# Altium integrated library Linear Technology Power Management PMIC Multifunction.IntLib: 360 symbols (part 20 of 42)
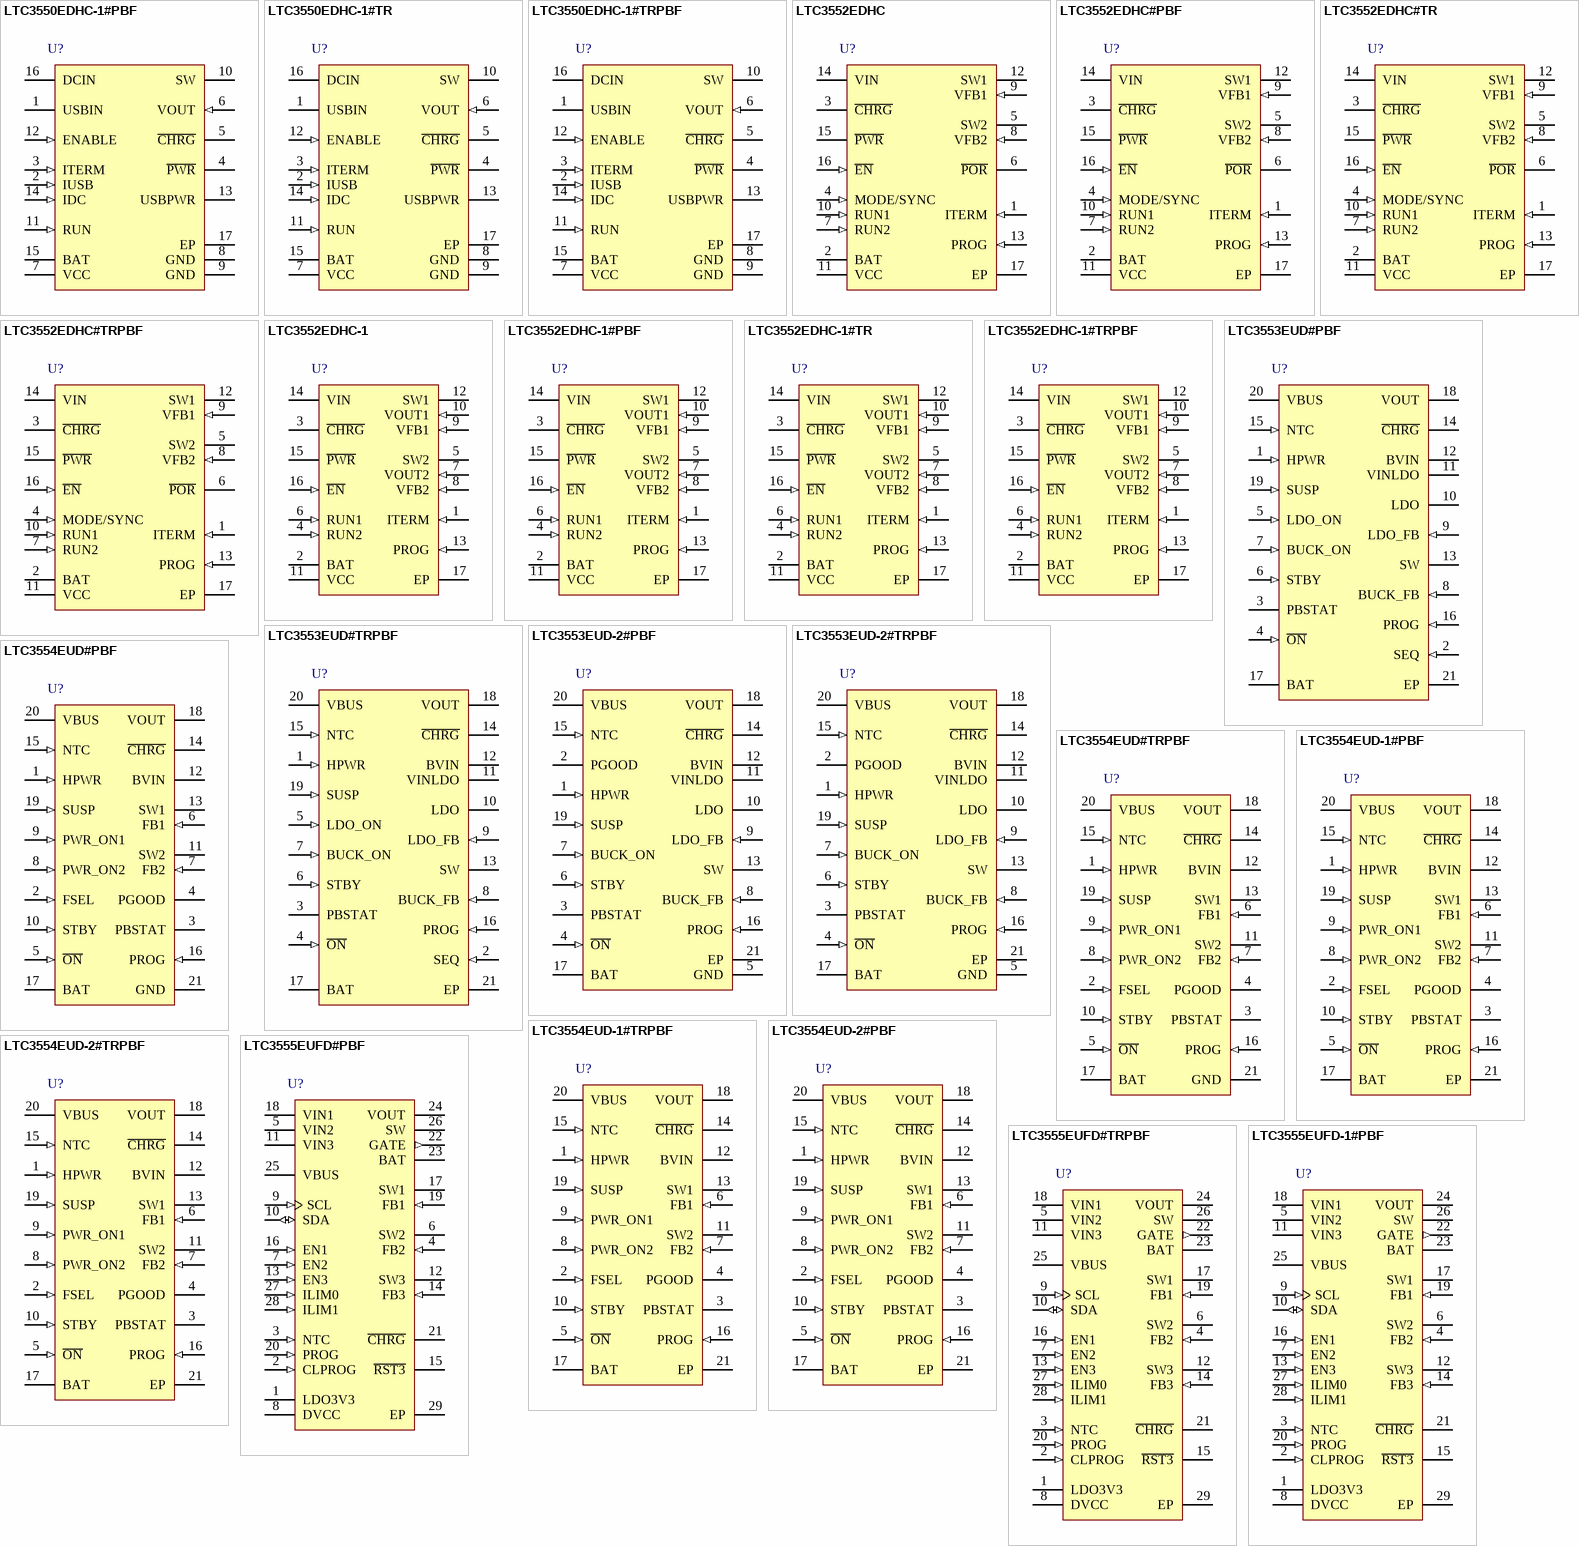
[diagram p37: symbols LTC3550EDHC-1#PBF to LTC3555EUFD-1#PBF]

## LTC3553EUD-2#PBF
designator U?
Micropower USB Power Manager with Li-Ion Charger, Always-On LDO and Buck Regulator with Power Good, 4.35 to 5.5 V Vin, 20-pin QFN (UD-20), -40 to 85 degC, Pb-Free; Manufacturer: Linear Technology; PartNumber: LTC3553EUD-2#PBF; Number of Cells: 1; Number of Outputs: 2; Vin Max(V): 5.5; Vin Min(V): 4.35; PackageVersion: Rev. A, 06/2010; PackageReference: UD-20; PackageDescription: 20-Pin Plastic QFN, Body 3 x 3 mm, Pitch 0.4 mm; Supplier 1: Digi-Key; Supplier Part Number 1: LTC3553EUD-2#PBF-ND; RoHS: TRUE; Mounting Technology: Surface Mount; ComponentLink1Description: Manufacturer URL; ComponentLink1URL: http://www.linear.com/; ComponentLink2Description: Datasheet; ComponentLink2URL: http://cds.linear.com/docs/en/datasheet/35532f.pdf; ComponentLink3Description: Package Specification; ComponentLink3URL: http://cds.linear.com/docs/en/packaging/QFN_20_05-08-1720.pdf
footprint LT-UD-20_N (QFN, 20-Leads, Body 3.1x3.1mm, Pitch 0.4mm, Thermal Pad 1.65x1.65mm, IPC Medium Density)
footprint LT-UD-20_L (QFN, 20-Leads, Body 3.1x3.1mm, Pitch 0.4mm, Thermal Pad 1.65x1.65mm, IPC High Density)
footprint LT-UD-20_M (QFN, 20-Leads, Body 3.1x3.1mm, Pitch 0.4mm, Thermal Pad 1.65x1.65mm, IPC Low Density)
pins: 1 HPWR (in) "High Power Logic Input. When this pin is low the input current limit is set to 100mA and when this pin is driven high it is set to 500mA. The SUSP pin needs to be low for the input current limit circuit to be enabled. This (See Datasheet)", 2 PGOOD (hiz) "Power Good. This open-drain output indicates that all enabled regulators have been in regulation for at least 1.8ms.", 3 PBSTAT (hiz) "Pushbutton Status. This open-drain output is a debounced and buffered version of the O\N\ pushbutton input. It may be used to interrupt a microprocessor.", 4 ~{ON} (in) "Pushbutton Input. Weak internal pull-up forces a high state if O\N\ is left floating. A normally open pushbutton is connected from O\N\ to ground to force a low state on this pin.", 5 GND (power) "Ground. The exposed package pad is ground and must be soldered to the PC board for proper functionality and for maximum heat transfer.", 6 STBY (in) "Standby Mode. When this pin is driven high, the buck and LDO regulator quiescent current is reduced to very low levels, while still maintaining output voltage regulation. In this mode, the buck regulator is limited to 10mA (See Datasheet)", 7 BUCK_ON (in) "Logic Input Enables the Buck Regulator. This pin must be driven to a valid logic level. Do not float this pin.", 8 BUCK_FB (in) "Feedback Input for the Buck Regulator. This pin servos to a fixed voltage of 0.8V when the control loop is complete.", 9 LDO_FB (in) "Feedback Input for the Low Dropout Regulator. This pin servos to a fixed voltage of 0.8V when the control loop is complete.", 10 LDO (power) "Low Dropout (LDO) Linear Regulator Output. This pin should be bypassed with a low impedance multilayer ceramic capacitor.", 11 VINLDO (power) "Power Input Pin for the LDO Regulator. This pin is to be connected to VOUT or any supply voltage below VOUT, such as the buck regulator output. This pin should be bypassed with a low impedance multilayer ceramic capacitor.", 12 BVIN (power) "Power Input for the Buck Regulator. It is recommended that this pin be connected to the VOUT pin. It should be bypassed with a low impedance multilayer ceramic capacitor.", 13 SW (power) "Power Transmission (Switch) Pin for the Buck Regulator.", 14 ~{CHRG} (hiz) "Open-Drain Charge Status Output. This pin indicates the status of the battery charger. It is internally pulled low while charging. Once the battery charge current reduces to less than one-tenth of the programmed charge (See Datasheet)", 15 NTC (in) "The NTC pin connects to a battery’s thermistor to determine if the battery is too hot or too cold to charge. If the battery’s temperature is out of range, charging is paused until it drops back into range. A low dr(See Datasheet)", 16 PROG (in) "Charge Current Program and Charge Current Monitor Pin. Connecting a resistor from PROG to ground programs the charge current as given by: ICHG (A)= 750V /RPROG If sufficient input power is available in constant-current mode, (See Datasheet)", 17 BAT (power) "Single-Cell Li-Ion Battery Pin. Depending on available power and load, a Li-Ion battery on BAT will either deliver system power to VOUT through the ideal diode or be charged from the battery charger.", 18 VOUT (power) "Output Voltage of the PowerPath Controller and Input Voltage of the Battery Charger. The majority of the portable products should be powered from VOUT. The LTC3553 will partition the available power between the external load (See Datasheet)", 19 SUSP (in) "Suspend Mode Logic Input. If this pin is driven high the input current limit path is disabled. In this state the circuit draws negligible power from the VBUS pin. Any load at the VOUT pin is provided by the battery through (See Datasheet)", 20 VBUS (power) "USB Input Voltage. VBUS will usually be connected to the USB port of a computer or a DC output wall adapter. VBUS should be bypassed with a low impedance multilayer ceramic capacitor.", 21 EP (power) "Ground. The exposed package pad is ground and must be soldered to the PC board for proper functionality and for maximum heat transfer."

## LTC3553EUD-2#TRPBF
designator U?
Micropower USB Power Manager with Li-Ion Charger, Always-On LDO and Buck Regulator with Power Good, 4.35 to 5.5 V Vin, 20-pin QFN (UD-20), -40 to 85 degC, Pb-Free, Tape and Reel; Manufacturer: Linear Technology; PartNumber: LTC3553EUD-2#TRPBF; Number of Cells: 1; Number of Outputs: 2; Vin Max(V): 5.5; Vin Min(V): 4.35; PackageVersion: Rev. A, 06/2010; PackageReference: UD-20; PackageDescription: 20-Pin Plastic QFN, Body 3 x 3 mm, Pitch 0.4 mm; Supplier 1: Digi-Key; Supplier Part Number 1: LTC3553EUD-2#TRPBF-ND; Packing: Tape and Reel; RoHS: TRUE; Mounting Technology: Surface Mount; ComponentLink1Description: Manufacturer URL; ComponentLink1URL: http://www.linear.com/; ComponentLink2Description: Datasheet; ComponentLink2URL: http://cds.linear.com/docs/en/datasheet/35532f.pdf; ComponentLink3Description: Package Specification; ComponentLink3URL: http://cds.linear.com/docs/en/packaging/QFN_20_05-08-1720.pdf
footprint LT-UD-20_N (QFN, 20-Leads, Body 3.1x3.1mm, Pitch 0.4mm, Thermal Pad 1.65x1.65mm, IPC Medium Density)
footprint LT-UD-20_L (QFN, 20-Leads, Body 3.1x3.1mm, Pitch 0.4mm, Thermal Pad 1.65x1.65mm, IPC High Density)
footprint LT-UD-20_M (QFN, 20-Leads, Body 3.1x3.1mm, Pitch 0.4mm, Thermal Pad 1.65x1.65mm, IPC Low Density)
pins: 1 HPWR (in) "High Power Logic Input. When this pin is low the input current limit is set to 100mA and when this pin is driven high it is set to 500mA. The SUSP pin needs to be low for the input current limit circuit to be enabled. This (See Datasheet)", 2 PGOOD (hiz) "Power Good. This open-drain output indicates that all enabled regulators have been in regulation for at least 1.8ms.", 3 PBSTAT (hiz) "Pushbutton Status. This open-drain output is a debounced and buffered version of the O\N\ pushbutton input. It may be used to interrupt a microprocessor.", 4 ~{ON} (in) "Pushbutton Input. Weak internal pull-up forces a high state if O\N\ is left floating. A normally open pushbutton is connected from O\N\ to ground to force a low state on this pin.", 5 GND (power) "Ground. The exposed package pad is ground and must be soldered to the PC board for proper functionality and for maximum heat transfer.", 6 STBY (in) "Standby Mode. When this pin is driven high, the buck and LDO regulator quiescent current is reduced to very low levels, while still maintaining output voltage regulation. In this mode, the buck regulator is limited to 10mA (See Datasheet)", 7 BUCK_ON (in) "Logic Input Enables the Buck Regulator. This pin must be driven to a valid logic level. Do not float this pin.", 8 BUCK_FB (in) "Feedback Input for the Buck Regulator. This pin servos to a fixed voltage of 0.8V when the control loop is complete.", 9 LDO_FB (in) "Feedback Input for the Low Dropout Regulator. This pin servos to a fixed voltage of 0.8V when the control loop is complete.", 10 LDO (power) "Low Dropout (LDO) Linear Regulator Output. This pin should be bypassed with a low impedance multilayer ceramic capacitor.", 11 VINLDO (power) "Power Input Pin for the LDO Regulator. This pin is to be connected to VOUT or any supply voltage below VOUT, such as the buck regulator output. This pin should be bypassed with a low impedance multilayer ceramic capacitor.", 12 BVIN (power) "Power Input for the Buck Regulator. It is recommended that this pin be connected to the VOUT pin. It should be bypassed with a low impedance multilayer ceramic capacitor.", 13 SW (power) "Power Transmission (Switch) Pin for the Buck Regulator.", 14 ~{CHRG} (hiz) "Open-Drain Charge Status Output. This pin indicates the status of the battery charger. It is internally pulled low while charging. Once the battery charge current reduces to less than one-tenth of the programmed charge (See Datasheet)", 15 NTC (in) "The NTC pin connects to a battery’s thermistor to determine if the battery is too hot or too cold to charge. If the battery’s temperature is out of range, charging is paused until it drops back into range. A low dr(See Datasheet)", 16 PROG (in) "Charge Current Program and Charge Current Monitor Pin. Connecting a resistor from PROG to ground programs the charge current as given by: ICHG (A)= 750V /RPROG If sufficient input power is available in constant-current mode, (See Datasheet)", 17 BAT (power) "Single-Cell Li-Ion Battery Pin. Depending on available power and load, a Li-Ion battery on BAT will either deliver system power to VOUT through the ideal diode or be charged from the battery charger.", 18 VOUT (power) "Output Voltage of the PowerPath Controller and Input Voltage of the Battery Charger. The majority of the portable products should be powered from VOUT. The LTC3553 will partition the available power between the external load (See Datasheet)", 19 SUSP (in) "Suspend Mode Logic Input. If this pin is driven high the input current limit path is disabled. In this state the circuit draws negligible power from the VBUS pin. Any load at the VOUT pin is provided by the battery through (See Datasheet)", 20 VBUS (power) "USB Input Voltage. VBUS will usually be connected to the USB port of a computer or a DC output wall adapter. VBUS should be bypassed with a low impedance multilayer ceramic capacitor.", 21 EP (power) "Ground. The exposed package pad is ground and must be soldered to the PC board for proper functionality and for maximum heat transfer."

## LTC3554EUD#PBF
designator U?
Micropower USB Power Manager with Li-Ion Charger and Two Step-Down Regulator, 4.35 to 5.5 V Vin, 20-pin QFN (UD-20), -40 to 85 degC, Pb-Free; Manufacturer: Linear Technology; PartNumber: LTC3554EUD#PBF; Number of Cells: 1; Number of Outputs: 2; Vin Max(V): 5.5; Vin Min(V): 4.35; DatasheetVersion: Rev. E; PackageVersion: Rev. A, 06/2010; PackageReference: UD-20; PackageDescription: 20-Pin Plastic QFN, Body 3 x 3 mm, Pitch 0.4 mm; Supplier 1: Digi-Key; Supplier Part Number 1: LTC3554EUD#PBF-ND; Supplier 2: Farnell; Supplier Part Number 2: 1847617; Supplier 3: Newark; Supplier Part Number 3: 84R4960; RoHS: TRUE; Mounting Technology: Surface Mount; ComponentLink1Description: Manufacturer URL; ComponentLink1URL: http://www.linear.com/; ComponentLink2Description: Datasheet; ComponentLink2URL: http://cds.linear.com/docs/en/datasheet/355412fe.pdf; ComponentLink3Description: Package Specification; ComponentLink3URL: http://cds.linear.com/docs/en/packaging/QFN_20_05-08-1720.pdf
footprint LT-UD-20_N (QFN, 20-Leads, Body 3.1x3.1mm, Pitch 0.4mm, Thermal Pad 1.65x1.65mm, IPC Medium Density)
footprint LT-UD-20_L (QFN, 20-Leads, Body 3.1x3.1mm, Pitch 0.4mm, Thermal Pad 1.65x1.65mm, IPC High Density)
footprint LT-UD-20_M (QFN, 20-Leads, Body 3.1x3.1mm, Pitch 0.4mm, Thermal Pad 1.65x1.65mm, IPC Low Density)
pins: 1 HPWR (in) "High Power Logic Input. When this pin is low the input current limit is set to 100mA and when this pin is driven high it is set to 500mA. The SUSP pin needs to be low for the input current limit circuit to be enabled. This (See Datasheet)", 2 FSEL (in) "Buck Frequency Select. When this pin is low the buck switching frequency is set to 1.125MHz and when this pin is driven high it is set to 2.25MHz.", 3 PBSTAT (hiz) "Pushbutton Status. This open-drain output is a debounced and buffered version of the O\N\ pushbutton input. It may be used to interrupt a microprocessor.", 4 PGOOD (hiz) "Power Good. This open-drain output indicates that all enabled buck regulators have been in regulation for at least 230ms.", 5 ~{ON} (in) "Pushbutton Input. Weak internal pull-up forces a high state if O\N\ is left floating. A normally open pushbutton is connected from O\N\ to ground to force a low state on this pin.", 6 FB1 (in) "Feedback Input for Step-Down Switching Regulator 1. This pin servos to a fixed voltage of 0.8V when the control loop is complete.", 7 FB2 (in) "Feedback Input for Step-Down Switching Regulator 2. This pin servos to a fixed voltage of 0.8V when the control loop is complete.", 8 PWR_ON2 (in) "Logic Input Enables Step-Down Switching Regulator 2.", 9 PWR_ON1 (in) "Logic Input Enables Step-Down Switching Regulator 1.", 10 STBY (in) "Standby Mode. When this pin is driven high the part enters a very low quiescent current mode. The buck regulators are each limited to 5mA maximum load current in this mode.", 11 SW2 (power) "Power Transmission (Switch) Pin for Step-Down Switching Regulator 2.", 12 BVIN (power) "Power Input for Step-Down Switching Regulators 1 and 2. It is recommended that this pin be connected to the VOUT pin. It should be bypassed with a low impedance multilayer ceramic capacitor.", 13 SW1 (power) "Power Transmission (Switch) Pin for Step-Down Switching Regulator 1.", 14 ~{CHRG} (hiz) "Open-Drain Charge Status Output. This pin indicates the status of the battery charger. It is internally pulled low while charging. Once the battery charge current reduces to less than one-tenth of the programmed charge (See Datasheet)", 15 NTC (in) "The NTC pin connects to a battery’s thermistor to determine if the battery is too hot or too cold to charge. If the battery’s temperature is out of range, charging is paused until it drops back into range. A low dr(See Datasheet)", 16 PROG (in) "Charge Current Program and Charge Current Monitor Pin. Connecting a resistor from PROG to ground programs the charge current as given by:ICHG (A)=750V/RPROG.If sufficient input power is available in constant-current mode, (See Datasheet)", 17 BAT (power) "Single-Cell Li-Ion Battery Pin. Depending on available power and load, a Li-Ion battery on BAT will either deliver system power to VOUT through the ideal diode or be charged from the battery charger.", 18 VOUT (power) "Output Voltage of the PowerPath Controller and Input Voltage of the Battery Charger. The majority of the portable products should be powered from VOUT.", 19 SUSP (in) "Suspend Mode Logic Input. If this pin is driven high the input current limit path is disabled. In this state the circuit draws negligible power from the VBUS pin. Any load at the VOUT pin is provided by the battery through (See Datasheet)", 20 VBUS (power) "USB Input Voltage. VBUS will usually be connected to the USB port of a computer or a DC output wall adapter. VBUS should be bypassed with a low impedance multilayer ceramic capacitor.", 21 GND (power) "Ground. The exposed package pad is ground and must be soldered to the PC board for proper functionality and for maximum heat transfer."

## LTC3554EUD#TRPBF
designator U?
Micropower USB Power Manager with Li-Ion Charger and Two Step-Down Regulator, 4.35 to 5.5 V Vin, 20-pin QFN (UD-20), -40 to 85 degC, Pb-Free, Tape and Reel; Manufacturer: Linear Technology; PartNumber: LTC3554EUD#TRPBF; Number of Cells: 1; Number of Outputs: 2; Vin Max(V): 5.5; Vin Min(V): 4.35; DatasheetVersion: Rev. E; PackageVersion: Rev. A, 06/2010; PackageReference: UD-20; PackageDescription: 20-Pin Plastic QFN, Body 3 x 3 mm, Pitch 0.4 mm; Supplier 1: Digi-Key; Supplier Part Number 1: LTC3554EUD#TRPBF-ND; Supplier 2: Newark; Supplier Part Number 2: 84R4961; Packing: Tape and Reel; RoHS: TRUE; Mounting Technology: Surface Mount; ComponentLink1Description: Manufacturer URL; ComponentLink1URL: http://www.linear.com/; ComponentLink2Description: Datasheet; ComponentLink2URL: http://cds.linear.com/docs/en/datasheet/355412fe.pdf; ComponentLink3Description: Package Specification; ComponentLink3URL: http://cds.linear.com/docs/en/packaging/QFN_20_05-08-1720.pdf
footprint LT-UD-20_N (QFN, 20-Leads, Body 3.1x3.1mm, Pitch 0.4mm, Thermal Pad 1.65x1.65mm, IPC Medium Density)
footprint LT-UD-20_L (QFN, 20-Leads, Body 3.1x3.1mm, Pitch 0.4mm, Thermal Pad 1.65x1.65mm, IPC High Density)
footprint LT-UD-20_M (QFN, 20-Leads, Body 3.1x3.1mm, Pitch 0.4mm, Thermal Pad 1.65x1.65mm, IPC Low Density)
pins: 1 HPWR (in) "High Power Logic Input. When this pin is low the input current limit is set to 100mA and when this pin is driven high it is set to 500mA. The SUSP pin needs to be low for the input current limit circuit to be enabled. This (See Datasheet)", 2 FSEL (in) "Buck Frequency Select. When this pin is low the buck switching frequency is set to 1.125MHz and when this pin is driven high it is set to 2.25MHz.", 3 PBSTAT (hiz) "Pushbutton Status. This open-drain output is a debounced and buffered version of the O\N\ pushbutton input. It may be used to interrupt a microprocessor.", 4 PGOOD (hiz) "Power Good. This open-drain output indicates that all enabled buck regulators have been in regulation for at least 230ms.", 5 ~{ON} (in) "Pushbutton Input. Weak internal pull-up forces a high state if O\N\ is left floating. A normally open pushbutton is connected from O\N\ to ground to force a low state on this pin.", 6 FB1 (in) "Feedback Input for Step-Down Switching Regulator 1. This pin servos to a fixed voltage of 0.8V when the control loop is complete.", 7 FB2 (in) "Feedback Input for Step-Down Switching Regulator 2. This pin servos to a fixed voltage of 0.8V when the control loop is complete.", 8 PWR_ON2 (in) "Logic Input Enables Step-Down Switching Regulator 2.", 9 PWR_ON1 (in) "Logic Input Enables Step-Down Switching Regulator 1.", 10 STBY (in) "Standby Mode. When this pin is driven high the part enters a very low quiescent current mode. The buck regulators are each limited to 5mA maximum load current in this mode.", 11 SW2 (power) "Power Transmission (Switch) Pin for Step-Down Switching Regulator 2.", 12 BVIN (power) "Power Input for Step-Down Switching Regulators 1 and 2. It is recommended that this pin be connected to the VOUT pin. It should be bypassed with a low impedance multilayer ceramic capacitor.", 13 SW1 (power) "Power Transmission (Switch) Pin for Step-Down Switching Regulator 1.", 14 ~{CHRG} (hiz) "Open-Drain Charge Status Output. This pin indicates the status of the battery charger. It is internally pulled low while charging. Once the battery charge current reduces to less than one-tenth of the programmed charge (See Datasheet)", 15 NTC (in) "The NTC pin connects to a battery’s thermistor to determine if the battery is too hot or too cold to charge. If the battery’s temperature is out of range, charging is paused until it drops back into range. A low dr(See Datasheet)", 16 PROG (in) "Charge Current Program and Charge Current Monitor Pin. Connecting a resistor from PROG to ground programs the charge current as given by:ICHG (A)=750V/RPROG.If sufficient input power is available in constant-current mode, (See Datasheet)", 17 BAT (power) "Single-Cell Li-Ion Battery Pin. Depending on available power and load, a Li-Ion battery on BAT will either deliver system power to VOUT through the ideal diode or be charged from the battery charger.", 18 VOUT (power) "Output Voltage of the PowerPath Controller and Input Voltage of the Battery Charger. The majority of the portable products should be powered from VOUT.", 19 SUSP (in) "Suspend Mode Logic Input. If this pin is driven high the input current limit path is disabled. In this state the circuit draws negligible power from the VBUS pin. Any load at the VOUT pin is provided by the battery through (See Datasheet)", 20 VBUS (power) "USB Input Voltage. VBUS will usually be connected to the USB port of a computer or a DC output wall adapter. VBUS should be bypassed with a low impedance multilayer ceramic capacitor.", 21 GND (power) "Ground. The exposed package pad is ground and must be soldered to the PC board for proper functionality and for maximum heat transfer."

## LTC3554EUD-1#PBF
designator U?
Micropower USB Power Manager with Li-Ion Charger and Two Step-Down Regulator, Extended Hard Reset Time, 4.35 to 5.5 V Vin, 20-pin QFN (UD-20), -40 to 85 degC, Pb-Free; Manufacturer: Linear Technology; PartNumber: LTC3554EUD-1#PBF; Number of Cells: 1; Number of Outputs: 2; Vin Max(V): 5.5; Vin Min(V): 4.35; DatasheetVersion: Rev. E; PackageVersion: Rev. A, 06/2010; PackageReference: UD-20; PackageDescription: 20-Pin Plastic QFN, Body 3 x 3 mm, Pitch 0.4 mm; Supplier 1: Digi-Key; Supplier Part Number 1: LTC3554EUD-1#PBF-ND; RoHS: TRUE; Mounting Technology: Surface Mount; ComponentLink1Description: Manufacturer URL; ComponentLink1URL: http://www.linear.com/; ComponentLink2Description: Datasheet; ComponentLink2URL: http://cds.linear.com/docs/en/datasheet/355412fe.pdf; ComponentLink3Description: Package Specification; ComponentLink3URL: http://cds.linear.com/docs/en/packaging/QFN_20_05-08-1720.pdf
footprint LT-UD-20_N (QFN, 20-Leads, Body 3.1x3.1mm, Pitch 0.4mm, Thermal Pad 1.65x1.65mm, IPC Medium Density)
footprint LT-UD-20_L (QFN, 20-Leads, Body 3.1x3.1mm, Pitch 0.4mm, Thermal Pad 1.65x1.65mm, IPC High Density)
footprint LT-UD-20_M (QFN, 20-Leads, Body 3.1x3.1mm, Pitch 0.4mm, Thermal Pad 1.65x1.65mm, IPC Low Density)
pins: 1 HPWR (in) "High Power Logic Input. When this pin is low the input current limit is set to 100mA and when this pin is driven high it is set to 500mA. The SUSP pin needs to be low for the input current limit circuit to be enabled. This (See Datasheet)", 2 FSEL (in) "Buck Frequency Select. When this pin is low the buck switching frequency is set to 1.125MHz and when this pin is driven high it is set to 2.25MHz.", 3 PBSTAT (hiz) "Pushbutton Status. This open-drain output is a debounced and buffered version of the O\N\ pushbutton input. It may be used to interrupt a microprocessor.", 4 PGOOD (hiz) "Power Good. This open-drain output indicates that all enabled buck regulators have been in regulation for at least 230ms.", 5 ~{ON} (in) "Pushbutton Input. Weak internal pull-up forces a high state if O\N\ is left floating. A normally open pushbutton is connected from O\N\ to ground to force a low state on this pin.", 6 FB1 (in) "Feedback Input for Step-Down Switching Regulator 1. This pin servos to a fixed voltage of 0.8V when the control loop is complete.", 7 FB2 (in) "Feedback Input for Step-Down Switching Regulator 2. This pin servos to a fixed voltage of 0.8V when the control loop is complete.", 8 PWR_ON2 (in) "Logic Input Enables Step-Down Switching Regulator 2.", 9 PWR_ON1 (in) "Logic Input Enables Step-Down Switching Regulator 1.", 10 STBY (in) "Standby Mode. When this pin is driven high the part enters a very low quiescent current mode. The buck regulators are each limited to 5mA maximum load current in this mode.", 11 SW2 (power) "Power Transmission (Switch) Pin for Step-Down Switching Regulator 2.", 12 BVIN (power) "Power Input for Step-Down Switching Regulators 1 and 2. It is recommended that this pin be connected to the VOUT pin. It should be bypassed with a low impedance multilayer ceramic capacitor.", 13 SW1 (power) "Power Transmission (Switch) Pin for Step-Down Switching Regulator 1.", 14 ~{CHRG} (hiz) "Open-Drain Charge Status Output. This pin indicates the status of the battery charger. It is internally pulled low while charging. Once the battery charge current reduces to less than one-tenth of the programmed charge (See Datasheet)", 15 NTC (in) "The NTC pin connects to a battery’s thermistor to determine if the battery is too hot or too cold to charge. If the battery’s temperature is out of range, charging is paused until it drops back into range. A low dr(See Datasheet)", 16 PROG (in) "Charge Current Program and Charge Current Monitor Pin. Connecting a resistor from PROG to ground programs the charge current as given by:ICHG (A)=750V/RPROG.If sufficient input power is available in constant-current mode, (See Datasheet)", 17 BAT (power) "Single-Cell Li-Ion Battery Pin. Depending on available power and load, a Li-Ion battery on BAT will either deliver system power to VOUT through the ideal diode or be charged from the battery charger.", 18 VOUT (power) "Output Voltage of the PowerPath Controller and Input Voltage of the Battery Charger. The majority of the portable products should be powered from VOUT.", 19 SUSP (in) "Suspend Mode Logic Input. If this pin is driven high the input current limit path is disabled. In this state the circuit draws negligible power from the VBUS pin. Any load at the VOUT pin is provided by the battery through (See Datasheet)", 20 VBUS (power) "USB Input Voltage. VBUS will usually be connected to the USB port of a computer or a DC output wall adapter. VBUS should be bypassed with a low impedance multilayer ceramic capacitor.", 21 EP (power) "Ground. The exposed package pad is ground and must be soldered to the PC board for proper functionality and for maximum heat transfer"

## LTC3554EUD-1#TRPBF
designator U?
Micropower USB Power Manager with Li-Ion Charger and Two Step-Down Regulator, Extended Hard Reset Time, 4.35 to 5.5 V Vin, 20-pin QFN (UD-20), -40 to 85 degC, Pb-Free, Tape and Reel; Manufacturer: Linear Technology; PartNumber: LTC3554EUD-1#TRPBF; Number of Cells: 1; Number of Outputs: 2; Vin Max(V): 5.5; Vin Min(V): 4.35; DatasheetVersion: Rev. E; PackageVersion: Rev. A, 06/2010; PackageReference: UD-20; PackageDescription: 20-Pin Plastic QFN, Body 3 x 3 mm, Pitch 0.4 mm; Supplier 1: Digi-Key; Supplier Part Number 1: LTC3554EUD-1#TRPBF-ND; Packing: Tape and Reel; RoHS: TRUE; Mounting Technology: Surface Mount; ComponentLink1Description: Manufacturer URL; ComponentLink1URL: http://www.linear.com/; ComponentLink2Description: Datasheet; ComponentLink2URL: http://cds.linear.com/docs/en/datasheet/355412fe.pdf; ComponentLink3Description: Package Specification; ComponentLink3URL: http://cds.linear.com/docs/en/packaging/QFN_20_05-08-1720.pdf
footprint LT-UD-20_N (QFN, 20-Leads, Body 3.1x3.1mm, Pitch 0.4mm, Thermal Pad 1.65x1.65mm, IPC Medium Density)
footprint LT-UD-20_L (QFN, 20-Leads, Body 3.1x3.1mm, Pitch 0.4mm, Thermal Pad 1.65x1.65mm, IPC High Density)
footprint LT-UD-20_M (QFN, 20-Leads, Body 3.1x3.1mm, Pitch 0.4mm, Thermal Pad 1.65x1.65mm, IPC Low Density)
pins: 1 HPWR (in) "High Power Logic Input. When this pin is low the input current limit is set to 100mA and when this pin is driven high it is set to 500mA. The SUSP pin needs to be low for the input current limit circuit to be enabled. This (See Datasheet)", 2 FSEL (in) "Buck Frequency Select. When this pin is low the buck switching frequency is set to 1.125MHz and when this pin is driven high it is set to 2.25MHz.", 3 PBSTAT (hiz) "Pushbutton Status. This open-drain output is a debounced and buffered version of the O\N\ pushbutton input. It may be used to interrupt a microprocessor.", 4 PGOOD (hiz) "Power Good. This open-drain output indicates that all enabled buck regulators have been in regulation for at least 230ms.", 5 ~{ON} (in) "Pushbutton Input. Weak internal pull-up forces a high state if O\N\ is left floating. A normally open pushbutton is connected from O\N\ to ground to force a low state on this pin.", 6 FB1 (in) "Feedback Input for Step-Down Switching Regulator 1. This pin servos to a fixed voltage of 0.8V when the control loop is complete.", 7 FB2 (in) "Feedback Input for Step-Down Switching Regulator 2. This pin servos to a fixed voltage of 0.8V when the control loop is complete.", 8 PWR_ON2 (in) "Logic Input Enables Step-Down Switching Regulator 2.", 9 PWR_ON1 (in) "Logic Input Enables Step-Down Switching Regulator 1.", 10 STBY (in) "Standby Mode. When this pin is driven high the part enters a very low quiescent current mode. The buck regulators are each limited to 5mA maximum load current in this mode.", 11 SW2 (power) "Power Transmission (Switch) Pin for Step-Down Switching Regulator 2.", 12 BVIN (power) "Power Input for Step-Down Switching Regulators 1 and 2. It is recommended that this pin be connected to the VOUT pin. It should be bypassed with a low impedance multilayer ceramic capacitor.", 13 SW1 (power) "Power Transmission (Switch) Pin for Step-Down Switching Regulator 1.", 14 ~{CHRG} (hiz) "Open-Drain Charge Status Output. This pin indicates the status of the battery charger. It is internally pulled low while charging. Once the battery charge current reduces to less than one-tenth of the programmed charge (See Datasheet)", 15 NTC (in) "The NTC pin connects to a battery’s thermistor to determine if the battery is too hot or too cold to charge. If the battery’s temperature is out of range, charging is paused until it drops back into range. A low dr(See Datasheet)", 16 PROG (in) "Charge Current Program and Charge Current Monitor Pin. Connecting a resistor from PROG to ground programs the charge current as given by:ICHG (A)=750V/RPROG.If sufficient input power is available in constant-current mode, (See Datasheet)", 17 BAT (power) "Single-Cell Li-Ion Battery Pin. Depending on available power and load, a Li-Ion battery on BAT will either deliver system power to VOUT through the ideal diode or be charged from the battery charger.", 18 VOUT (power) "Output Voltage of the PowerPath Controller and Input Voltage of the Battery Charger. The majority of the portable products should be powered from VOUT.", 19 SUSP (in) "Suspend Mode Logic Input. If this pin is driven high the input current limit path is disabled. In this state the circuit draws negligible power from the VBUS pin. Any load at the VOUT pin is provided by the battery through (See Datasheet)", 20 VBUS (power) "USB Input Voltage. VBUS will usually be connected to the USB port of a computer or a DC output wall adapter. VBUS should be bypassed with a low impedance multilayer ceramic capacitor.", 21 EP (power) "Ground. The exposed package pad is ground and must be soldered to the PC board for proper functionality and for maximum heat transfer"

## LTC3554EUD-2#PBF
designator U?
Micropower USB Power Manager with Li-Ion Charger and Two Step-Down Regulator, Extended Hard Reset Time, 4.35 to 5.5 V Vin, 20-pin QFN (UD-20), -40 to 85 degC, Pb-Free; Manufacturer: Linear Technology; PartNumber: LTC3554EUD-2#PBF; Number of Cells: 1; Number of Outputs: 2; Vin Max(V): 5.5; Vin Min(V): 4.35; DatasheetVersion: Rev. E; PackageVersion: Rev. A, 06/2010; PackageReference: UD-20; PackageDescription: 20-Pin Plastic QFN, Body 3 x 3 mm, Pitch 0.4 mm; Supplier 1: Digi-Key; Supplier Part Number 1: LTC3554EUD-2#PBF-ND; RoHS: TRUE; Mounting Technology: Surface Mount; ComponentLink1Description: Manufacturer URL; ComponentLink1URL: http://www.linear.com/; ComponentLink2Description: Datasheet; ComponentLink2URL: http://cds.linear.com/docs/en/datasheet/355412fe.pdf; ComponentLink3Description: Package Specification; ComponentLink3URL: http://cds.linear.com/docs/en/packaging/QFN_20_05-08-1720.pdf
footprint LT-UD-20_N (QFN, 20-Leads, Body 3.1x3.1mm, Pitch 0.4mm, Thermal Pad 1.65x1.65mm, IPC Medium Density)
footprint LT-UD-20_L (QFN, 20-Leads, Body 3.1x3.1mm, Pitch 0.4mm, Thermal Pad 1.65x1.65mm, IPC High Density)
footprint LT-UD-20_M (QFN, 20-Leads, Body 3.1x3.1mm, Pitch 0.4mm, Thermal Pad 1.65x1.65mm, IPC Low Density)
pins: 1 HPWR (in) "High Power Logic Input. When this pin is low the input current limit is set to 100mA and when this pin is driven high it is set to 500mA. The SUSP pin needs to be low for the input current limit circuit to be enabled. This (See Datasheet)", 2 FSEL (in) "Buck Frequency Select. When this pin is low the buck switching frequency is set to 1.125MHz and when this pin is driven high it is set to 2.25MHz.", 3 PBSTAT (hiz) "Pushbutton Status. This open-drain output is a debounced and buffered version of the O\N\ pushbutton input. It may be used to interrupt a microprocessor.", 4 PGOOD (hiz) "Power Good. This open-drain output indicates that all enabled buck regulators have been in regulation for at least 230ms.", 5 ~{ON} (in) "Pushbutton Input. Weak internal pull-up forces a high state if O\N\ is left floating. A normally open pushbutton is connected from O\N\ to ground to force a low state on this pin.", 6 FB1 (in) "Feedback Input for Step-Down Switching Regulator 1. This pin servos to a fixed voltage of 0.8V when the control loop is complete.", 7 FB2 (in) "Feedback Input for Step-Down Switching Regulator 2. This pin servos to a fixed voltage of 0.8V when the control loop is complete.", 8 PWR_ON2 (in) "Logic Input Enables Step-Down Switching Regulator 2.", 9 PWR_ON1 (in) "Logic Input Enables Step-Down Switching Regulator 1.", 10 STBY (in) "Standby Mode. When this pin is driven high the part enters a very low quiescent current mode. The buck regulators are each limited to 5mA maximum load current in this mode.", 11 SW2 (power) "Power Transmission (Switch) Pin for Step-Down Switching Regulator 2.", 12 BVIN (power) "Power Input for Step-Down Switching Regulators 1 and 2. It is recommended that this pin be connected to the VOUT pin. It should be bypassed with a low impedance multilayer ceramic capacitor.", 13 SW1 (power) "Power Transmission (Switch) Pin for Step-Down Switching Regulator 1.", 14 ~{CHRG} (hiz) "Open-Drain Charge Status Output. This pin indicates the status of the battery charger. It is internally pulled low while charging. Once the battery charge current reduces to less than one-tenth of the programmed charge (See Datasheet)", 15 NTC (in) "The NTC pin connects to a battery’s thermistor to determine if the battery is too hot or too cold to charge. If the battery’s temperature is out of range, charging is paused until it drops back into range. A low dr(See Datasheet)", 16 PROG (in) "Charge Current Program and Charge Current Monitor Pin. Connecting a resistor from PROG to ground programs the charge current as given by:ICHG (A)=750V/RPROG.If sufficient input power is available in constant-current mode, (See Datasheet)", 17 BAT (power) "Single-Cell Li-Ion Battery Pin. Depending on available power and load, a Li-Ion battery on BAT will either deliver system power to VOUT through the ideal diode or be charged from the battery charger.", 18 VOUT (power) "Output Voltage of the PowerPath Controller and Input Voltage of the Battery Charger. The majority of the portable products should be powered from VOUT.", 19 SUSP (in) "Suspend Mode Logic Input. If this pin is driven high the input current limit path is disabled. In this state the circuit draws negligible power from the VBUS pin. Any load at the VOUT pin is provided by the battery through (See Datasheet)", 20 VBUS (power) "USB Input Voltage. VBUS will usually be connected to the USB port of a computer or a DC output wall adapter. VBUS should be bypassed with a low impedance multilayer ceramic capacitor.", 21 EP (power) "Ground. The exposed package pad is ground and must be soldered to the PC board for proper functionality and for maximum heat transfer"

## LTC3554EUD-2#TRPBF
designator U?
Micropower USB Power Manager with Li-Ion Charger and Two Step-Down Regulator, Extended Hard Reset Time, 4.35 to 5.5 V Vin, 20-pin QFN (UD-20), -40 to 85 degC, Pb-Free, Tape and Reel; Manufacturer: Linear Technology; PartNumber: LTC3554EUD-2#TRPBF; Number of Cells: 1; Number of Outputs: 2; Vin Max(V): 5.5; Vin Min(V): 4.35; DatasheetVersion: Rev. E; PackageVersion: Rev. A, 06/2010; PackageReference: UD-20; PackageDescription: 20-Pin Plastic QFN, Body 3 x 3 mm, Pitch 0.4 mm; Supplier 1: Digi-Key; Supplier Part Number 1: LTC3554EUD-2#TRPBF-ND; Packing: Tape and Reel; RoHS: TRUE; Mounting Technology: Surface Mount; ComponentLink1Description: Manufacturer URL; ComponentLink1URL: http://www.linear.com/; ComponentLink2Description: Datasheet; ComponentLink2URL: http://cds.linear.com/docs/en/datasheet/355412fe.pdf; ComponentLink3Description: Package Specification; ComponentLink3URL: http://cds.linear.com/docs/en/packaging/QFN_20_05-08-1720.pdf
footprint LT-UD-20_N (QFN, 20-Leads, Body 3.1x3.1mm, Pitch 0.4mm, Thermal Pad 1.65x1.65mm, IPC Medium Density)
footprint LT-UD-20_L (QFN, 20-Leads, Body 3.1x3.1mm, Pitch 0.4mm, Thermal Pad 1.65x1.65mm, IPC High Density)
footprint LT-UD-20_M (QFN, 20-Leads, Body 3.1x3.1mm, Pitch 0.4mm, Thermal Pad 1.65x1.65mm, IPC Low Density)
pins: 1 HPWR (in) "High Power Logic Input. When this pin is low the input current limit is set to 100mA and when this pin is driven high it is set to 500mA. The SUSP pin needs to be low for the input current limit circuit to be enabled. This (See Datasheet)", 2 FSEL (in) "Buck Frequency Select. When this pin is low the buck switching frequency is set to 1.125MHz and when this pin is driven high it is set to 2.25MHz.", 3 PBSTAT (hiz) "Pushbutton Status. This open-drain output is a debounced and buffered version of the O\N\ pushbutton input. It may be used to interrupt a microprocessor.", 4 PGOOD (hiz) "Power Good. This open-drain output indicates that all enabled buck regulators have been in regulation for at least 230ms.", 5 ~{ON} (in) "Pushbutton Input. Weak internal pull-up forces a high state if O\N\ is left floating. A normally open pushbutton is connected from O\N\ to ground to force a low state on this pin.", 6 FB1 (in) "Feedback Input for Step-Down Switching Regulator 1. This pin servos to a fixed voltage of 0.8V when the control loop is complete.", 7 FB2 (in) "Feedback Input for Step-Down Switching Regulator 2. This pin servos to a fixed voltage of 0.8V when the control loop is complete.", 8 PWR_ON2 (in) "Logic Input Enables Step-Down Switching Regulator 2.", 9 PWR_ON1 (in) "Logic Input Enables Step-Down Switching Regulator 1.", 10 STBY (in) "Standby Mode. When this pin is driven high the part enters a very low quiescent current mode. The buck regulators are each limited to 5mA maximum load current in this mode.", 11 SW2 (power) "Power Transmission (Switch) Pin for Step-Down Switching Regulator 2.", 12 BVIN (power) "Power Input for Step-Down Switching Regulators 1 and 2. It is recommended that this pin be connected to the VOUT pin. It should be bypassed with a low impedance multilayer ceramic capacitor.", 13 SW1 (power) "Power Transmission (Switch) Pin for Step-Down Switching Regulator 1.", 14 ~{CHRG} (hiz) "Open-Drain Charge Status Output. This pin indicates the status of the battery charger. It is internally pulled low while charging. Once the battery charge current reduces to less than one-tenth of the programmed charge (See Datasheet)", 15 NTC (in) "The NTC pin connects to a battery’s thermistor to determine if the battery is too hot or too cold to charge. If the battery’s temperature is out of range, charging is paused until it drops back into range. A low dr(See Datasheet)", 16 PROG (in) "Charge Current Program and Charge Current Monitor Pin. Connecting a resistor from PROG to ground programs the charge current as given by:ICHG (A)=750V/RPROG.If sufficient input power is available in constant-current mode, (See Datasheet)", 17 BAT (power) "Single-Cell Li-Ion Battery Pin. Depending on available power and load, a Li-Ion battery on BAT will either deliver system power to VOUT through the ideal diode or be charged from the battery charger.", 18 VOUT (power) "Output Voltage of the PowerPath Controller and Input Voltage of the Battery Charger. The majority of the portable products should be powered from VOUT.", 19 SUSP (in) "Suspend Mode Logic Input. If this pin is driven high the input current limit path is disabled. In this state the circuit draws negligible power from the VBUS pin. Any load at the VOUT pin is provided by the battery through (See Datasheet)", 20 VBUS (power) "USB Input Voltage. VBUS will usually be connected to the USB port of a computer or a DC output wall adapter. VBUS should be bypassed with a low impedance multilayer ceramic capacitor.", 21 EP (power) "Ground. The exposed package pad is ground and must be soldered to the PC board for proper functionality and for maximum heat transfer"

## LTC3555EUFD#PBF
designator U?
High Efficiency USB Power Manager + Triple Step-Down DC/DC, 4.35 to 5.5 V Vin, 28-pin QFN (UFD-28), -40 to 85 degC, Pb-Free; Manufacturer: Linear Technology; PartNumber: LTC3555EUFD#PBF; Number of Cells: 1; Number of Outputs: 4; Vin Max(V): 5.5; Vin Min(V): 4.35; DatasheetVersion: Rev. D; PackageVersion: Rev. B, 06/2010; PackageReference: UFD-28; PackageDescription: 28-Pin Plastic QFN, Body 5 x 4 mm, Pitch 0.5 mm; Supplier 1: Digi-Key; Supplier Part Number 1: LTC3555EUFD#PBF-ND; Supplier 2: Farnell; Supplier Part Number 2: 1663713; RoHS: TRUE; Mounting Technology: Surface Mount; Code_JEDEC: MO-220; ComponentLink1Description: Manufacturer URL; ComponentLink1URL: http://www.linear.com/; ComponentLink2Description: Datasheet; ComponentLink2URL: http://cds.linear.com/docs/en/datasheet/3555fd.pdf; ComponentLink3Description: Package Specification; ComponentLink3URL: http://cds.linear.com/docs/en/packaging/QFN_28_05-08-1712.pdf
footprint LT-UFD-28_N (QFN, 28-Leads, Body 5.1x4.1mm, Pitch 0.5mm, Thermal Pad 3.65x2.65mm, IPC Medium Density)
footprint LT-UFD-28_L (QFN, 28-Leads, Body 5.1x4.1mm, Pitch 0.5mm, Thermal Pad 3.65x2.65mm, IPC High Density)
footprint LT-UFD-28_M (QFN, 28-Leads, Body 5.1x4.1mm, Pitch 0.5mm, Thermal Pad 3.65x2.65mm, IPC Low Density)
pins: 1 LDO3V3 (power) "3.3V LDO Output Pin. This pin provides a regulated always-on 3.3V supply voltage. LDO3V3 gets its power from VOUT. It may be used for light loads such as a watchdog microprocessor or real time clock. A 1uF capacitor is (See Datasheet)", 2 CLPROG (in) "USB Current Limit Program and Monitor Pin. A resistor from CLPROG to ground determines the upper limit of the current drawn from the VBUS pin. A fraction of the VBUS current is sent to the CLPROG pin when the synchronous (See Datasheet)", 3 NTC (in) "Input to the Thermistor Monitoring Circuits. The NTC pin connects to a battery’s thermistor to determine if the battery is too hot or too cold to charge. If the battery’s temperature is out of range, charging is pau(See Datasheet)", 4 FB2 (in) "Feedback Input for Switching Regulator 2. When regulator 2’s control loop is complete, this pin servos to 1 of 16 possible set-points based on the commanded value from the I2C serial port. See Table 4.", 5 VIN2 (power) "Power Input for Switching Regulator 2. This pin will generally be connected to VOUT. A 1uF MLCC capacitor is recommended on this pin.", 6 SW2 (power) "Power Transmission Pin for Switching Regulator 2.", 7 EN2 (in) "Logic Input. This logic input pin independently enables switching regulator 2. This pin is logically OR-ed with its corresponding bit in the I2C serial port. See Table 2.", 8 DVCC (power) "Logic Supply for the I2C Serial Port. If the serial port is not needed it can be disabled by grounding DVCC. When DVCC is grounded, chip control is automatically passed to the individual logic input pins.", 9 SCL (in) "Clock Input Pin for the I2C Serial Port. The I2C logic levels are scaled with respect to DVCC. If DVCC is grounded, the SCL pin is equivalent to the B5 bit in the I2C serial port. SCL in conjunction with SDA determine the (See Datasheet)", 10 SDA (io) "Data Input Pin for the I2C Serial Port. The I2C logic levels are scaled with respect to DVCC. If DVCC is grounded, the SDA pin is equivalent to the B6 bit in the I2C serial port. SDA in conjunction with SCL determine the (See Datasheet)", 11 VIN3 (power) "Power Input for Switching Regulator 3. This pin will generally be connected to VOUT. A 1uF MLCC capacitor is recommended on this pin.", 12 SW3 (power) "Power Transmission Pin for Switching Regulator 3.", 13 EN3 (in) "Logic Input. This logic input pin independently enables switching regulator 3. This pin is logically OR-ed with its corresponding bit in the I2C serial port. See Table 2.", 14 FB3 (in) "Feedback Input for Switching Regulator 3. When regulator 3’s control loop is complete, this pin servos to 1 of 16 possible set-points based on the commanded value from the I2C serial port. See Table 4.", 15 ~{RST3} (oc) "Logic Output. This in an open-drain output which indicates that switching regulator 3 has settled to its final value. It can be used as a power-on reset for the primary microprocessor or to enable the other switching (See Datasheet)", 16 EN1 (in) "Logic Input. This logic input pin independently enables switching regulator 1. This pin is logically OR-ed with its corresponding bit in the I2C serial port. See Table 2.", 17 SW1 (power) "Power Transmission Pin for Switching Regulator 1.", 18 VIN1 (power) "Power Input for Switching Regulator 1. This pin will generally be connected to VOUT. A 1uF MLCC capacitor is recommended on this pin.", 19 FB1 (in) "Feedback Input for Switching Regulator 1. When regulator 1’s control loop is complete, this pin servos to a fixed voltage of 0.8V.", 20 PROG (in) "Charge Current Program and Charge Current Monitor Pin. Connecting a resistor from PROG to ground programs the charge current. If sufficient input power is available in constant-current mode, this pin servos to 1V. The (See Datasheet)", 21 ~{CHRG} (hiz) "Open-Drain Charge Status Output. The C\H\R\G\ pin indicates the status of the battery charger. Four possible states are represented by C\H\R\G\: charging, not charging, unresponsive battery and battery temperature out of (See Datasheet)", 22 GATE (out) "Analog Output. This pin controls the gate of an optional external P-channel MOSFET transistor used to supplement the ideal diode between VOUT and BAT. The external ideal diode operates in parallel with the internal ideal (See Datasheet)", 23 BAT (power) "Single Cell Li-Ion Battery Pin. Depending on available VBUS power, a Li-Ion battery on BAT will either deliver power to VOUT through the ideal diode or be charged from VOUT via the battery charger.", 24 VOUT (power) ""Output voltage of the Switching PowerPath Controller and Input Voltage of the Battery Charger. The majority of the portable product should be powered from VOUT. The LTC3555 family will partition the available power between (See Datasheet)", 25 VBUS (power) "Primary Input Power Pin. This pin delivers power to VOUT via the SW pin by drawing controlled current from a DC source such as a USB port or wall adapter.", 26 SW "Power Transmission Pin for the USB Power Path. The SW pin delivers power from VBUS to VOUT via the step-down switching regulator. A 3.3uH inductor should be connected from SW to VOUT.", 27 ILIM0 (in) "Logic Input. ILIM0 and ILIM1 control the current limit of the PowerPath switching regulator. See Table 3. Both of the ILIM0 and ILIM1 pins are logically OR-ed with their corresponding bits in the I2C serial port. See Table 2.", 28 ILIM1 (in) "Logic Input. ILIM0 and ILIM1 control the current limit of the PowerPath switching regulator. See Table 3. Both of the ILIM0 and ILIM1 pins are logically OR-ed with their corresponding bits in the I2C serial port. See Table 2.", 29 EP (power) "Ground. The Exposed Pad should be connected to a continuous ground plane on the second layer of the printed circuit board by several vias directly under the part."